# Altium schematic symbol library ebox_v3.SchLib: 20 symbols
Pins are listed as number, name and electrical type; pins without a type are passive.

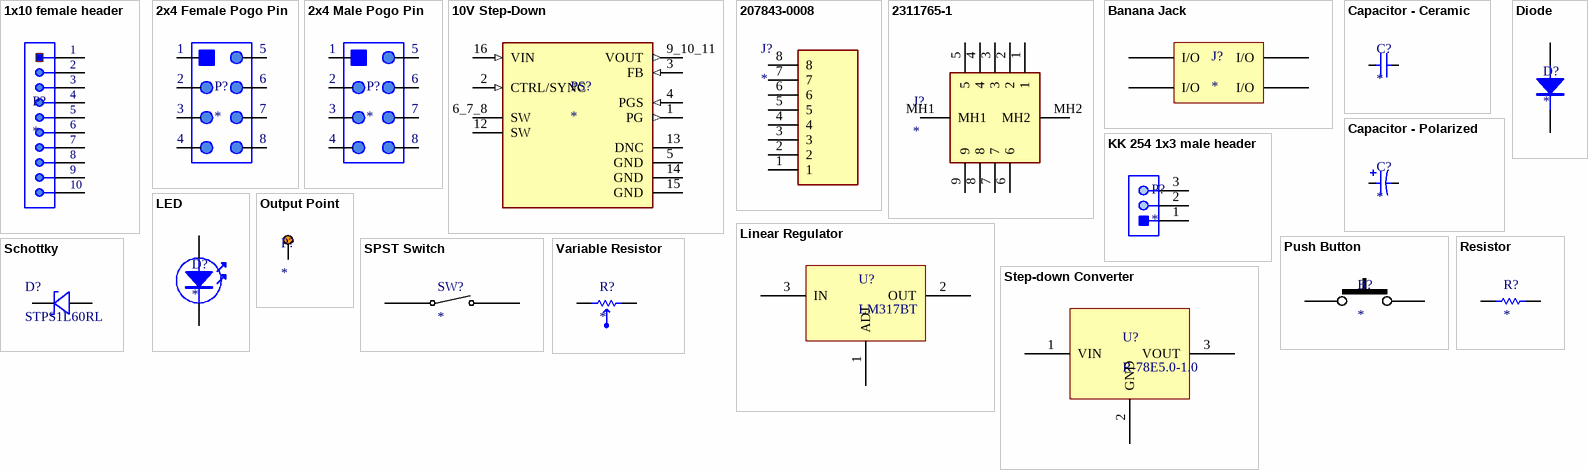
[diagram p0: symbols 1x10 female header to Variable Resistor]

## 1x10 female header
designator P?
5-535541-8
text: 1; 2; 3; 4; 5; 6; 7; 8; 9; 10

## 2x4 Female Pogo Pin
designator P?
430-10-208-00-240000
text: 1; 5; 2; 6; 3; 7; 4; 8

## 2x4 Male Pogo Pin
designator P?
826-22-008-00-005000
text: 1; 5; 2; 6; 3; 7; 4; 8

## 10V Step-Down
designator PS?
Non-Isolated DC/DC Converters 4-36Vin 0.8-24Vout 1.5A; MP: RPX-1.5-R; MF: Recom Power; Value: *; Availability: Warning; Package: None; Check_prices: https://www.snapeda.com/parts/RPX-1.5-R/Recom%20Power/view-part/5138341/?ref=eda; Price: None; SnapEDA_Link: https://www.snapeda.com/parts/RPX-1.5-R/Recom%20Power/view-part/5138341/?ref=snap; Purchase-URL: https://pricing.snapeda.com/search/part/RPX-1.5-R/?ref=eda
footprint 10V Step-Down
pins: 1 PG (out), 2 CTRL/SYNC (in), 3 FB (in), 4 PGS (in), 5 GND (power), 6_7_8 SW, 9_10_11 VOUT (out), 12 SW, 13 DNC, 14 GND (power), 15 GND (power), 16 VIN (in)

## 207843-0008
designator J?
KK Molex 1x8 Header; Manufacturer_Part_Number: 207843-0008; Datasheet Link: https://www.molex.com/pdm_docs/sd/2078430008_sd.pdf; Height: 6.95mm; Manufacturer_Name: Molex; Mouser Part Number: 538-207843-0008; Mouser Price/Stock: https://www.mouser.co.uk/ProductDetail/Molex/207843-0008?qs=XeJtXLiO41QJV3n1oae5pg%3D%3D
footprint 1x8 Molex Header - Female (CONN_171856-0008_MOL)
pins: 1, 2, 3, 4, 5, 6, 7, 8

## 2311765-1
designator J?
Connector; Manufacturer_Name: TE Connectivity; Manufacturer_Part_Number: 2311765-1; Datasheet Link: https://componentsearchengine.com//2311765-1.pdf; Height: 12.8mm; Mouser2 Part Number: 571-2311765-1; Mouser2 Price/Stock: https://www.mouser.com/Search/Refine.aspx?Keyword=571-2311765-1
footprint 9-Pin D-Sub (23117651)
pins: 1, 2, 3, 4, 5, 6, 7, 8, 9, MH1, MH2

## Banana Jack
designator J?
Female
footprint Banana Jack (Female)
pins: 1 I/O, 2 I/O, 3 I/O, 4 I/O

## Capacitor - Ceramic
designator C?
footprint 0.1uF (C322C104K5R5TA7305)
footprint 1uF (FG28)
footprint 10uF Ceramic (FG26)
footprint 10uF Cer SMD (CAP_CL31_SAM)
footprint 0.1uF Cer SMD (CAPC2012X94N)
pins: 1, 2

## Capacitor - Polarized
designator C?
footprint 10uF Tantalum (TAP106K035CRW)
footprint 100uF Tantalum (CAPC7360X200N)
footprint 10uF Electrolytic (CAPPRD200W52D500H1250)
pins: 1, 2

## Diode
designator D?
footprint Protective Diode (1n5400)
pins: 1, 2

## KK 254 1x3 male header
designator P?
22112032
footprint 3x1 KK Molex (22112032 - HDRV3W87P0X254_1X3_747X635X1105P)
pins: 1, 2, 3

## LED
designator D?
footprint LED 5V Arduino Thru Hole
footprint LED 5V Thru Hole (WP934EW/GD5V)
footprint LED 12V Thru Hole (609-1112-130F)
pins: 1, 2

## Linear Regulator
designator U?, comment LM317BT
footprint LM317(B)T (TO255P460X1020X2008-3P)
pins: 1 ADJ, 2 OUT, 3 IN

## Output Point
designator P?
Thru hole via
footprint Via
pins: 1

## Push Button
designator B?
pins: 1, 2

## Resistor
designator R?
footprint 1.5 Ohm (PR01000101508JR500)
footprint 249 Ohm (RESC3216X70N)
footprint General Resistor
footprint 340 Ohm (RESC3216X75N)
footprint 75K
footprint 6.65K
pins: 1, 2

## Schottky
designator D?, comment STPS1L60RL
Mfr_Name: STMicroelectronics; Type: DEV; Copyright: Copyright (C) 2021 Ultra Librarian. All rights reserved.; Manufacturer_Part_Number: STPS1L60RL; Digi-Key_Part_Number_1: 497-16205-2-ND; Digi-Key_Part_Number_2: 497-16205-1-ND; RefDes: RefDes
footprint Schottky (STPS1L60RL)
pins: 1, 2

## SPST Switch
designator SW?
pins: 1, 2

## Step-down Converter
designator U?, comment R-78E5.0-1.0
footprint Step-Down Converter (CONV_R-78E5.0-1.0)
pins: 1 VIN, 2 GND, 3 VOUT

## Variable Resistor
designator R?
footprint General Resistor
pins: 1, 2